# Altium integrated library lib_shielding.IntLib: 1 symbol
Pins are listed as number, name and electrical type; pins without a type are passive.

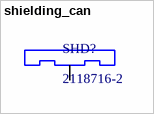
[diagram p0: symbol shielding_can]

## shielding_can
designator SHD?, comment 2118716-2
STD SHIELD FRAME, CRS-16.50X16.50X3.60MM
footprint 2118716-2 (STD SHIELD FRAME, CRS-16.50X16.50X3.60MM, TE connectivity)
pins: SHIELD